# EAGLE library part ATSAMW25 (library heck)
IEEE 802.11 b/g/n SmartConnect Wi-Fi Module The Atmel® | SMART SAMW25 module is based on the industry-leading low- power 2.4GHz IEEE® 802.11 b/g/n Wi-Fi® ATWINC1500 SoC (System on Chip) combined with the ARM® Cortex®-M0+ based microcontroller technology from Atmel. * Certified Wi-Fi ATWINC1500B-MU-T with SAMD21 MCU * IEEE 802.11 b/g/n 20MHz (1x1) solution * CryptoAuthentication™ ATECC508 (MR510)
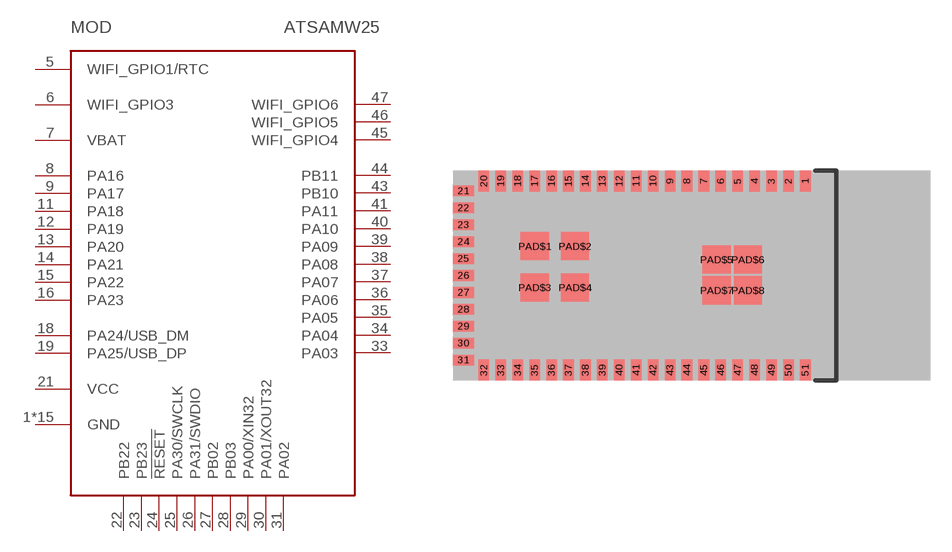
[diagram p58: symbol with the pads of ATSAMW25; footprint ATSAMW25]

Designator prefix MOD

## ATSAMW25_MR210  [ATSAMW25]
1  GND
5  WIFI_GPIO1/RTC
6  WIFI_GPIO3
7  VBAT
8  PA16
9  PA17
10  GND
11  PA18
12  PA19
13  PA20
14  PA21
15  PA22
16  PA23
17  GND
18  PA24/USB_DM
19  PA25/USB_DP
20  GND
21  VCC
22  PB22
23  PB23
24  !RESET
25  PA30/SWCLK
26  PA31/SWDIO
27  PB02
28  PB03
29  PA00/XIN32
30  PA01/XOUT32
31  PA02
32  GND
33  PA03
34  PA04
35  PA05
36  PA06
37  PA07
38  PA08
39  PA09
40  PA10
41  PA11
42  GND
43  PB10
44  PB11
45  WIFI_GPIO4
46  WIFI_GPIO5
47  WIFI_GPIO6
51  GND
PAD$1  GND
PAD$2  GND
PAD$3  GND
PAD$4  GND
PAD$5  GND
PAD$6  GND
PAD$7  GND
PAD$8  GND

## ATSAMW25_MR510  [ATSAMW25]
Pads as for ATSAMW25

## Footprint ATSAMW25 (pad centres in mm)
smd 0.754 x 1.5: 1 -2.36,6.688; 2 -3.56,6.688; 3 -4.76,6.688; 4 -5.96,6.688; 5 -7.16,6.688; 6 -8.36,6.688; 7 -9.56,6.688; 8 -10.76,6.688; 9 -11.96,6.688; 10 -13.16,6.688; 11 -14.36,6.688; 12 -15.56,6.688; 13 -16.76,6.688; 14 -17.96,6.688; 15 -19.16,6.688; 16 -20.36,6.688; 17 -21.56,6.688; 18 -22.76,6.688; 19 -23.96,6.688; 20 -25.16,6.688; 32 -25.16,-6.72; 33 -23.96,-6.72; 34 -22.76,-6.72; 35 -21.56,-6.72; 36 -20.36,-6.72; 37 -19.16,-6.72; 38 -17.96,-6.72; 39 -16.76,-6.72; 40 -15.56,-6.72; 41 -14.36,-6.72; 42 -13.16,-6.72; 43 -11.96,-6.72; 44 -10.76,-6.72; 45 -9.56,-6.72; 46 -8.36,-6.72; 47 -7.16,-6.72; 48 -5.96,-6.72; 49 -4.76,-6.72; 50 -3.56,-6.72; 51 -2.36,-6.72
smd 1.5 x 0.754: 21 -26.608,5.984; 22 -26.608,4.784; 23 -26.608,3.584; 24 -26.608,2.384; 25 -26.608,1.184; 26 -26.608,-0.016; 27 -26.608,-1.216; 28 -26.608,-2.416; 29 -26.608,-3.616; 30 -26.608,-4.816; 31 -26.608,-6.016
smd 2 x 2: PAD$1 -21.549,2.069; PAD$2 -18.694,2.069; PAD$3 -21.549,-0.855; PAD$4 -18.694,-0.855; PAD$5 -8.656,1.122; PAD$6 -6.439,1.122; PAD$7 -8.656,-1.06; PAD$8 -6.439,-1.06